# EAGLE library part TXS0108E (library Synapseware-transistors)
8-BIT BIDIRECTIONAL VOLTAGE-LEVEL TRANSLATOR FOR OPEN-DRAIN AND PUSH-PULL APPLICATIONS
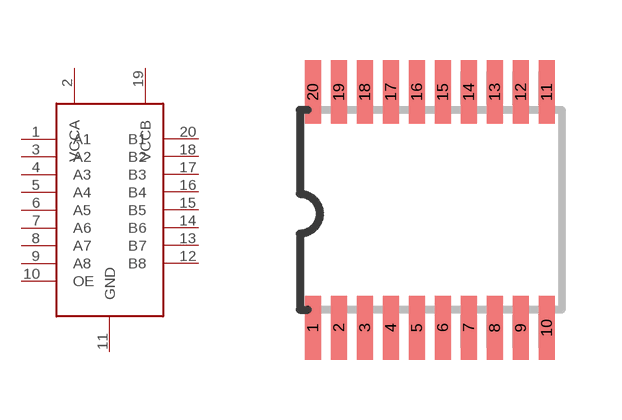
[diagram p15: symbol with the pads of TSSOP20; footprint TSSOP20]

Designator prefix -

## TXS0108E  [TSSOP20]
1  A1
2  VCCA
3  A2
4  A3
5  A4
6  A5
7  A6
8  A7
9  A8
10  OE
11  GND
12  B8
13  B7
14  B6
15  B5
16  B4
17  B3
18  B2
19  VCCB
20  B1

## Footprint TSSOP20 (pad centres in mm)
smd 0.4 x 1.6: 1 -2.675,-2.85; 2 -2.025,-2.85; 3 -1.375,-2.85; 4 -0.725,-2.85; 5 -0.075,-2.85; 6 0.575,-2.85; 7 1.225,-2.85; 8 1.875,-2.85; 9 2.525,-2.85; 10 3.175,-2.85; 11 3.175,3.05; 12 2.525,3.05; 13 1.875,3.05; 14 1.225,3.05; 15 0.575,3.05; 16 -0.075,3.05; 17 -0.725,3.05; 18 -1.375,3.05; 19 -2.025,3.05; 20 -2.675,3.05